# Altium footprint library TO-220-2.PcbLib: 1 footprints
Each footprint in its own frame and in the unit in brackets; x right, y up, seen from the top. Pads: shape width x height; smd on the part's side, far side on the other; paste and mask are expansions set on the pad; w line width, h text height; cw(c..) or ccw(c..) is an arc to the next point about the centre after c.
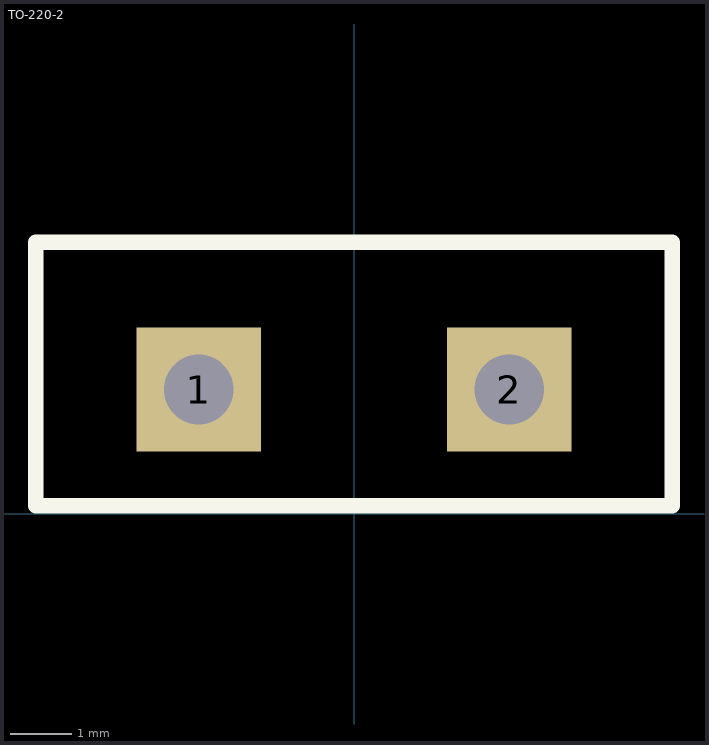
[diagram p0: the footprint, top view; thin cyan lines are the x and y axes]

## TO-220-2 [mil] "RCH Resisitor"
pads (2):
  rect 80x80 hole 45: 1(-100,80) 2(100,80)
Top Overlay:
  lines w10: -205,5 -205,175 -55,175 205,175 205,5 -205,5
3D body: height 745.5, standoff -425.5, extent -205,2.5 205,177.5